# Altium footprint library RM_addition.PcbLib: 124 footprints (part 8 of 8)
Each footprint in its own frame and in the unit in brackets; x right, y up, seen from the top. Pads: shape width x height; smd on the part's side, far side on the other; paste and mask are expansions set on the pad; w line width, h text height; cw(c..) or ccw(c..) is an arc to the next point about the centre after c.
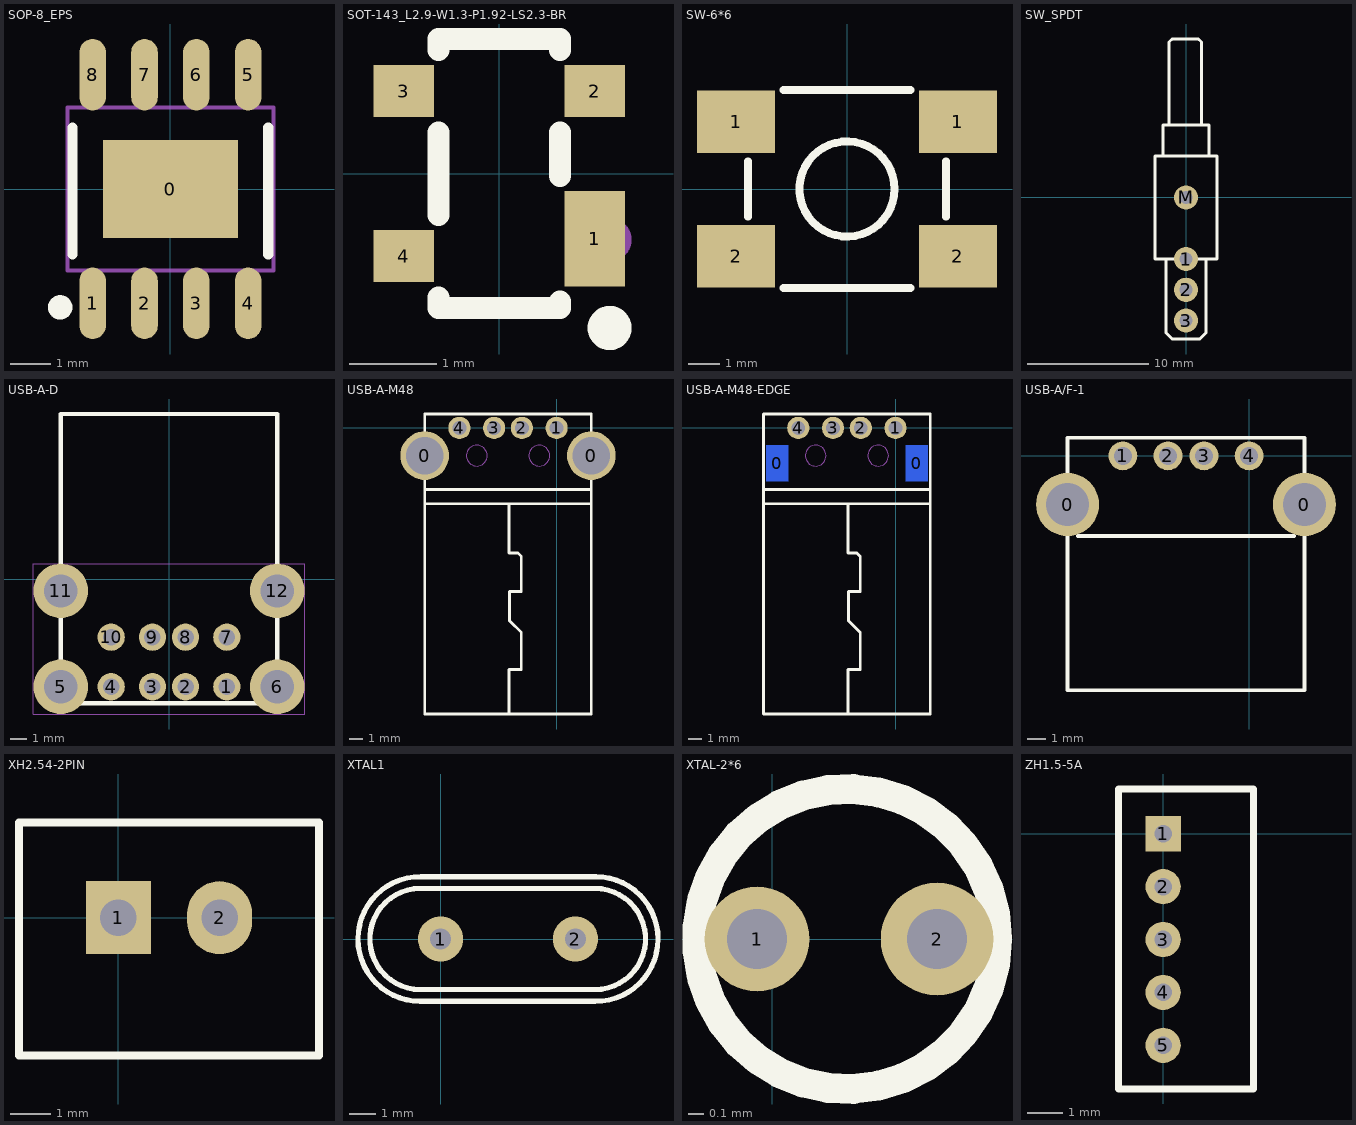
[diagram p7: the footprints below, top view; thin cyan lines are the x and y axes]

## SOP-8_EPS [mm]
pads (9):
  rect 3.3x2.41 smd: 0(0,0)
  oval 0.65x1.75 smd: 1(-1.905,-2.8) 2(-0.635,-2.8) 3(0.635,-2.8) 4(1.905,-2.8) 5(1.905,2.8) 6(0.635,2.8) 7(-0.635,2.8) 8(-1.905,2.8)
Top Overlay:
  circle w0.3: c-2.7,-2.9 r0.15
  lines w0.254: -2.4,-1.6 -2.4,1.5 ; 2.4,-1.6 2.4,1.5
Mechanical 13:
  lines w0.1: -2.525,-1.995 2.525,-1.995 2.525,1.995 -2.525,1.995 -2.525,-1.995

## SOT-143_L2.9-W1.3-P1.92-LS2.3-BR [mm] "静电放电（ESD）保护器件"
pads (4):
  rect 0.7x1.1 smd: 1(1.1,-0.75)
  rect 0.7x0.6 smd: 2(1.1,0.95) 3(-1.1,0.95) 4(-1.1,-0.95)
Top Overlay:
  circle w0.254: c1.27,-1.778 r0.127
  lines w0.254: -0.7,-1.425 -0.7,-1.55 0.7,-1.55 0.7,-1.475 ; -0.7,-0.475 -0.7,0.475 ; -0.7,1.425 -0.7,1.55 0.7,1.55 0.7,1.425 ; 0.7,-0.025 0.7,0.475
Mechanical 15:
  circle w0.254: c1.27,-0.762 r0.127

## SW-6*6 [mm]
pads (4):
  rect 2.5x2 smd: 1(-3.556,2.159) 1(3.556,2.159) 2(-3.556,-2.159) 2(3.556,-2.159)
Top Overlay:
  circle w0.254: c0,0 r1.524
  lines w0.25: -3.175,-0.889 -3.175,0.889 ; -2.032,-3.175 2.032,-3.175 ; -2.032,3.175 2.032,3.175 ; 3.175,-0.889 3.175,0.889
3D body: height 6, standoff 0, extent -1.524,-1.524 1.524,1.524
3D body: height 1.5, standoff 0, extent -3.175,-3.175 3.175,3.175

## SW_SPDT [mm] "拨动开关"
pads (4):
  round 2 hole 1.1: 1(0,-5.08) 2(0,-7.62) 3(0,-10.16) M(0,0)
Top Overlay:
  lines w0.24: -1.905,3.42 -1.905,5.969 1.905,5.969 1.905,3.42 ; -1.651,-5.08 -1.651,-11.176 -1.143,-11.684 1.143,-11.684 1.651,-11.176 1.651,-5.08 ; -1.397,5.969 -1.397,12.827 -1.143,13.081 1.016,13.081 1.27,12.827 1.27,5.969 ; -2.55,-5.08 0,-5.08 2.55,-5.08 2.55,3.42 -2.55,3.42 -2.55,-5.08

## USB-A-D [mm]
pads (12):
  round 1.651 hole 1 mask+0.064: 1(3.5,-6.5) 2(1,-6.5) 3(-1,-6.5) 4(-3.5,-6.5) 7(3.5,-3.5) 8(1,-3.5) 9(-1,-3.5) 10(-3.5,-3.5)
  round 3.3 hole 2 mask+0.051: 5(-6.55,-6.5) 6(6.55,-6.5) 11(-6.55,-0.7) 12(6.55,-0.7)
Top Overlay:
  lines w0.254: -6.55,-7.5 -6.55,10 6.55,10 6.55,-7.5 -6.55,-7.5
Assembly Top:
  text "J36" at 1.424,0.635 h1.27
Mechanical 20:
  lines w0.025: -8.2,-8.15 -8.2,0.95 8.2,0.95 8.2,-8.15 -8.2,-8.15

## USB-A-M48 [mm]
pads (6):
  round 3.5 hole 2.7: 0(-9.5,-2) 0(2.5,-2)
  round 1.6 hole 1: 1(0,0) 2(-2.5,0) 3(-4.5,0) 4(-7,0)
Top Overlay:
  lines w0.2: -9.5,-20.6 2.5,-20.6 2.5,-4.445 -9.5,-4.445 -9.5,-20.575 ; -9.5,-6.1 -9.5,1 1.5,1 ; -9.5,-5.461 2.5,-5.461 ; -3.429,-20.6 -3.429,-17.399 -2.54,-17.399 -2.54,-17.145 -2.54,-14.732 -3.389,-13.883 -3.389,-11.771 -2.54,-11.771 -2.54,-9.271 -2.794,-9.017 -3.429,-9.017 -3.429,-5.461 ; 0.5,1 2.5,1 2.5,-6.1
Mechanical 1:
  circle w0.013: c-1.25,-2 r0.75
  circle w0.013: c-5.75,-2 r0.75

## USB-A-M48-EDGE [mm] "EDGE version"
pads (6):
  rect 1.6x2.6 smd far side: 0(-8.509,-2.54) 0(1.524,-2.54)
  round 1.6 hole 1: 1(0,0) 2(-2.5,0) 3(-4.5,0) 4(-7,0)
Top Overlay:
  lines w0.2: -9.5,-20.6 2.5,-20.6 2.5,-4.445 -9.5,-4.445 -9.5,-20.575 ; -9.5,-6.1 -9.5,1 1.5,1 ; -9.5,-5.461 2.5,-5.461 ; -3.429,-20.6 -3.429,-17.399 -2.54,-17.399 -2.54,-17.145 -2.54,-14.732 -3.389,-13.883 -3.389,-11.771 -2.54,-11.771 -2.54,-9.271 -2.794,-9.017 -3.429,-9.017 -3.429,-5.461 ; 0.5,1 2.5,1 2.5,-6.1
Mechanical 1:
  circle w0.013: c-5.75,-2 r0.75
  circle w0.013: c-1.25,-2 r0.75

## USB-A/F-1 [mm]
pads (6):
  round 3.5 hole 2.4: 0(-10.07,-2.7) 0(3.07,-2.7)
  round 1.6 hole 1: 1(-7,0) 2(-4.5,0) 3(-2.5,0) 4(0,0)
Top Overlay:
  lines w0.2: -9.5,-4.445 2.5,-4.445 ; 0.5,1 3.07,1 3.07,-6.1 ; 1.5,1 -10.07,1 -10.07,-6.1 -10.07,-13 -8.93,-13 3.07,-13 3.07,-2.7

## XH2.54-2PIN [mm] "https://detail.tmall.com/item.htm?spm=a230r.1.14.20.6c9737fcAqBRtl&id=557836671170&ns=1&abbucket=9&skuId=3461149397066"
pads (2):
  rect 1.6x1.8 hole 0.9: 1(0,0)
  oval 1.6x1.8 hole 0.9: 2(2.5,0)
Top Overlay:
  lines w0.2: -2.45,-3.4 -2.45,2.35 4.95,2.35 4.95,-3.4 -2.45,-3.4

## XTAL1 [mm]
height 8.23
pads (2):
  round 1.7 hole 0.8: 1(0,0) 2(5.08,0)
Top Overlay:
  lines w0.2: -0.762,-2.35 cw(c-0.762,0) -0.737,2.35 5.842,2.35 cw(c5.842,0) 5.818,-2.35 -0.762,-2.35 ; -0.762,-1.905 cw(c-0.762,0) -0.762,1.905 5.817,1.905 cw(c5.817,0) 5.817,-1.905 -0.762,-1.905

## XTAL-2*6 [mm]
pads (2):
  round 0.7 hole 0.4: 1(-0.1,0)
  round 0.75 hole 0.4: 2(1.1,0)
Top Overlay:
  circle w0.2: c0.5,0 r1

## ZH1.5-5A [mm] "https://item.szlcsc.com/157334.html"
pads (5):
  rect 1x1 hole 0.5: 1(0,0)
  round 1 hole 0.5: 2(0,-1.5) 3(0,-3) 4(0,-4.5) 5(0,-6)
Top Overlay:
  lines w0.2: -1.27,-7.239 -1.27,1.27 0,1.27 2.563,1.27 2.563,-7.239 ; -1.237,-7.239 2.563,-7.239 ; 0,-7.239 2.563,-7.239